# Altium schematic symbol library HARSH_Payload_SchLib.SchLib: 93 symbols (part 4 of 4)
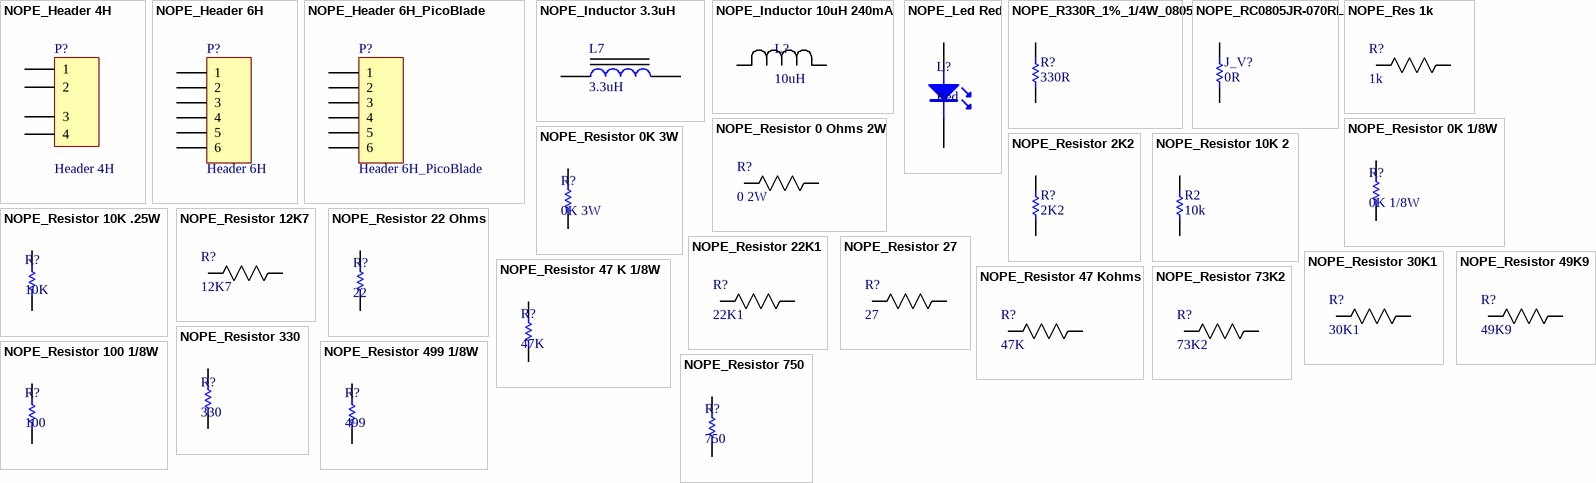
[diagram p6: symbols NOPE_Header 4H to NOPE_Resistor 750]

## NOPE_Resistor 49K9
designator R?, comment 49K9
Imported; Manufacturer: Vishay Dale; Manufacturer Part Number: CRCW040249K9FKEDHP; Resistance: 49.9kR; Tolerance: 1%; Power Rating: 200mW; Voltage Rating: 50V; Max Power Dissipation: 125mW; Temperature Coefficient: 100ppm/°C; Supplier 1: Digi-Key; Stock 1: 29800; Pricing 1: 1=0.15, 10=0.138, 100=0.0532, 1000=0.0234, 2500=0.0202, 5000=0.0181 (USD); Case/Package: 0402; Weight: 2.3E-05oz; Case Code (Metric): 1005; Case Code (Imperial): 0402; Contact Plating: Tin; Min Operating Temperature: -55°C; Max Operating Temperature: 155°C; Packaging: Tape and Reel; Package Quantity: 10; Composition: Thick Film; Number of Terminations: 2; Termination: SMD/SMT; Length: 0.039inch; Height: 0.016inch; Width: 0.02inch; Radiation Hardening: No; Lead Free: Lead Free; ComponentLink1URL: https://datasheet.ciiva.com/9003/crcwhpe3-9003574.pdf; ComponentLink1Description: https://datasheet.ciiva.com/9003/crcwhpe3-9003574.pdf; ComponentLink2URL: https://datasheet.ciiva.com/2498/crcwhpe3-2498713.pdf; ComponentLink2Description: https://datasheet.ciiva.com/2498/crcwhpe3-2498713.pdf; ComponentLink3URL: https://datasheet.ciiva.com/2498/crcwhpe3-2498714.pdf; ComponentLink3Description: https://datasheet.ciiva.com/2498/crcwhpe3-2498714.pdf; ComponentLink4URL: https://datasheet.ciiva.com/5540/crcwhpe3-46056-5540826.pdf; ComponentLink4Description: https://datasheet.ciiva.com/5540/crcwhpe3-46056-5540826.pdf; ComponentLink5URL: https://datasheet.ciiva.com/2498/crcwhpe3-2498715.pdf; ComponentLink5Description: https://datasheet.ciiva.com/2498/crcwhpe3-2498715.pdf; Supplier Part Number 1: 541-49.9KYCT-ND
footprint 0402m (0402M)
pins: 1, 2

## NOPE_Resistor 73K2
designator R?, comment 73K2
Imported; Manufacturer: Panasonic; Manufacturer Part Number: ERJ-2RKF7322X; Resistance: 73.2kR; Tolerance: 1%; Power Rating: 100mW; Voltage Rating: 50V; Temperature Coefficient: 100ppm/°C; Supplier 1: Digi-Key; Stock 1: 219384; Pricing 1: 1=0.1, 10=0.043, 100=0.0176, 1000=0.0079, 2500=0.0069, 5000=0.0057 (USD); Mount: Surface Mount; Case/Package: 0402; Case Code (Imperial): 0402; Case Code (Metric): 1005; Contact Plating: Tin; Min Operating Temperature: -55°C; Max Operating Temperature: 155°C; Packaging: Tape and Reel; Package Quantity: 1; Termination: SMD/SMT; Composition: Thick Film; Number of Terminations: 2; Military Standard: Not; Max Power Dissipation: 100mW; Voltage Rating (DC): 50V; Length: 1mm; Height: 0.35mm; Width: 0.5mm; Depth: 0.5mm; REACH SVHC: Yes; Lead Free: Lead Free; ComponentLink1URL: https://datasheet.ciiva.com/16777/70260748-16777749.pdf; ComponentLink1Description: https://datasheet.ciiva.com/16777/70260748-16777749.pdf; ComponentLink2URL: https://datasheet.ciiva.com/24069/aoa0000ce2-24069526.pdf; ComponentLink2Description: https://datasheet.ciiva.com/24069/aoa0000ce2-24069526.pdf; ComponentLink3URL: https://datasheet.ciiva.com/46373/1678782-46373866.pdf; ComponentLink3Description: https://datasheet.ciiva.com/46373/1678782-46373866.pdf; ComponentLink4URL: https://datasheet.ciiva.com/16765/70260748-16765195.pdf; ComponentLink4Description: https://datasheet.ciiva.com/16765/70260748-16765195.pdf; ComponentLink5URL: https://datasheet.ciiva.com/22682/1678782-22682459.pdf; ComponentLink5Description: https://datasheet.ciiva.com/22682/1678782-22682459.pdf; ComponentLink6URL: https://datasheet.ciiva.com/46373/1678782-46373867.pdf; ComponentLink6Description: https://datasheet.ciiva.com/46373/1678782-46373867.pdf; ComponentLink7URL: https://datasheet.ciiva.com/7861/aoa0000ce2-7861998.pdf; ComponentLink7Description: https://datasheet.ciiva.com/7861/aoa0000ce2-7861998.pdf; ComponentLink8URL: https://datasheet.ciiva.com/43467/1678782-43467470.pdf; ComponentLink8Description: https://datasheet.ciiva.com/43467/1678782-43467470.pdf; Supplier Part Number 1: P73.2KLCT-ND
footprint 0402m (0402M)
pins: 1, 2

## NOPE_Resistor 100 1/8W
designator R?, comment 100
Manufacturer: Vishay BCcomponents; Manufacturer Part Number: MCT06030D1000DP500; Resistance: 100R; Tolerance: 0.5%; Temperature Coefficient: 25ppm/°C; Power Rating: 100mW; Max Power Dissipation: 125mW; Supplier 1: Digi-Key; Stock 1: 46229; Pricing 1: 1=0.38, 10=0.291, 100=0.1223, 1000=0.0675, 2500=0.0632 (USD); Mount: Surface Mount; Case/Package: 0603; Contact Plating: Tin; Min Operating Temperature: -55°C; Max Operating Temperature: 125°C; Composition: Thin Film; Package Quantity: 5000; Packaging: Tape and Reel; Number of Terminations: 2; Military Standard: Not; Length: 1.55mm; Height: 0.022inch; Width: 0.033inch; Depth: 0.85mm; Radiation Hardening: No; Lead Free: Lead Free; ComponentLink1URL: https://datasheet.ciiva.com/2585/mc-pro-2585236.pdf; ComponentLink1Description: https://datasheet.ciiva.com/2585/mc-pro-2585236.pdf; ComponentLink2URL: https://datasheet.ciiva.com/8899/mc-pro-8899816.pdf; ComponentLink2Description: https://datasheet.ciiva.com/8899/mc-pro-8899816.pdf; ComponentLink3URL: https://datasheet.ciiva.com/8897/mc-pro-8897625.pdf; ComponentLink3Description: https://datasheet.ciiva.com/8897/mc-pro-8897625.pdf; ComponentLink4URL: https://datasheet.ciiva.com/17171/mc-pro-17171583.pdf; ComponentLink4Description: https://datasheet.ciiva.com/17171/mc-pro-17171583.pdf; Supplier Part Number 1: 749-1691-1-ND
footprint 0603 2
pins: 1, 2

## NOPE_Resistor 330
designator R?, comment 330
Manufacturer: Vishay; Manufacturer Part Number: CRCW0603330RFKEAHP; Tolerance: 1%; Resistance: 330R; Temperature Coefficient: 100ppm/°C; Power Rating: 250mW; Voltage Rating: 75V; Supplier 1: Digi-Key; Stock 1: 0; Pricing 1: 1=0.18, 10=0.156, 100=0.0609, 1000=0.0255, 2500=0.0234 (USD); Mount: Surface Mount; Case/Package: 0603; Weight: 7.1E-05oz; Contact Plating: Tin; Case Code (Metric): 1608; Case Code (Imperial): 0603; Min Operating Temperature: -55°C; Max Operating Temperature: 155°C; Composition: Thick Film; Packaging: Tape and Reel; Package Quantity: 1; Number of Terminations: 2; Termination: SMD/SMT; Military Standard: Not; Max Power Dissipation: 250mW; Voltage Rating (DC): 75V; Length: 1.6mm; Height: 0.45mm; Width: 0.033inch; Depth: 0.85mm; Radiation Hardening: No; REACH SVHC: Unknown; Lead Free: Lead Free; ComponentLink1URL: https://datasheet.ciiva.com/48524/crcwhpe3-48524918.pdf; ComponentLink1Description: https://datasheet.ciiva.com/48524/crcwhpe3-48524918.pdf; ComponentLink2URL: https://datasheet.ciiva.com/8944/crcwhpe3-8944983.pdf; ComponentLink2Description: https://datasheet.ciiva.com/8944/crcwhpe3-8944983.pdf; ComponentLink3URL: https://datasheet.ciiva.com/6551/crcwhpe3-6551640.pdf; ComponentLink3Description: https://datasheet.ciiva.com/6551/crcwhpe3-6551640.pdf; ComponentLink4URL: https://datasheet.ciiva.com/6551/crcwhpe3-6551641.pdf; ComponentLink4Description: https://datasheet.ciiva.com/6551/crcwhpe3-6551641.pdf; ComponentLink5URL: https://datasheet.ciiva.com/6551/crcwhpe3-6551644.pdf; ComponentLink5Description: https://datasheet.ciiva.com/6551/crcwhpe3-6551644.pdf; ComponentLink6URL: https://datasheet.ciiva.com/16884/crcwhpe3-16884876.pdf; ComponentLink6Description: https://datasheet.ciiva.com/16884/crcwhpe3-16884876.pdf; ComponentLink7URL: https://datasheet.ciiva.com/12664/crcwhpe3-46056-12664527.pdf; ComponentLink7Description: https://datasheet.ciiva.com/12664/crcwhpe3-46056-12664527.pdf; Supplier Part Number 1: 541-330SCT-ND
footprint 0603 2
pins: 1, 2

## NOPE_Resistor 499 1/8W
designator R?, comment 499
Manufacturer: Vishay BCcomponents; Manufacturer Part Number: MCT06030C4990FP500; Tolerance: 0.5%; Resistance: 499R; Temperature Coefficient: 50ppm/°C; Power Rating: 100mW; Voltage Rating: 75V; Max Power Dissipation: 125mW; Width: 0.033inch; Supplier 1: Digi-Key; Stock 1: 49135; Pricing 1: 1=0.18, 10=0.152, 100=0.0596, 1000=0.025, 2500=0.0229 (USD); Case/Package: 0603; Weight: 7.1E-05oz; Contact Plating: Tin; Case Code (Metric): 1608; Case Code (Imperial): 0603; Min Operating Temperature: -55°C; Max Operating Temperature: 125°C; Composition: Thin Film; Packaging: Tape and Reel; Package Quantity: 5000; Number of Terminations: 2; Termination: SMD/SMT; Military Standard: Not; Length: 0.061inch; Height: 0.022inch; Depth: 0.85mm; Radiation Hardening: No; Lead Free: Lead Free; ComponentLink1URL: https://datasheet.ciiva.com/9112/mc-pro-9112616.pdf; ComponentLink1Description: https://datasheet.ciiva.com/9112/mc-pro-9112616.pdf; ComponentLink2URL: https://datasheet.ciiva.com/2571/mc-pro-2571611.pdf; ComponentLink2Description: https://datasheet.ciiva.com/2571/mc-pro-2571611.pdf; ComponentLink3URL: https://datasheet.ciiva.com/24167/mc-pro-24167454.pdf; ComponentLink3Description: https://datasheet.ciiva.com/24167/mc-pro-24167454.pdf; Supplier Part Number 1: 749-1659-1-ND
footprint 0603 2
pins: 1, 2

## NOPE_Resistor 750
designator R?, comment 750
Manufacturer: Vishay Dale; Manufacturer Part Number: CRCW0603750RFKEAHP; Resistance: 750R; Tolerance: 1%; Max Power Dissipation: 250mW; Temperature Coefficient: 100ppm/°C; Supplier 1: Digi-Key; Stock 1: 33536; Pricing 1: 1=0.18, 10=0.156, 100=0.0609, 1000=0.0255, 2500=0.0234 (USD); Mount: Surface Mount; Case/Package: 0603; Case Code (Metric): 1608; Case Code (Imperial): 0603; Contact Plating: Tin; Min Operating Temperature: -55°C; Max Operating Temperature: 155°C; Packaging: Tape and Reel; Package Quantity: 1; Composition: Thick Film; Number of Terminations: 2; Length: 0.063inch; Height: 0.022inch; Width: 0.033inch; Radiation Hardening: No; Lead Free: Lead Free; ComponentLink1URL: https://datasheet.ciiva.com/8920/crcwhpe3-8920909.pdf; ComponentLink1Description: https://datasheet.ciiva.com/8920/crcwhpe3-8920909.pdf; Supplier Part Number 1: 541-750SCT-ND
footprint 0603 2
pins: 1, 2